# Altium footprint library MGMEZZ04_Loopback.PcbLib: 50 footprints (part 2 of 4)
Each footprint in its own frame and in the unit in brackets; x right, y up, seen from the top. Pads: shape width x height; smd on the part's side, far side on the other; paste and mask are expansions set on the pad; w line width, h text height; cw(c..) or ccw(c..) is an arc to the next point about the centre after c.
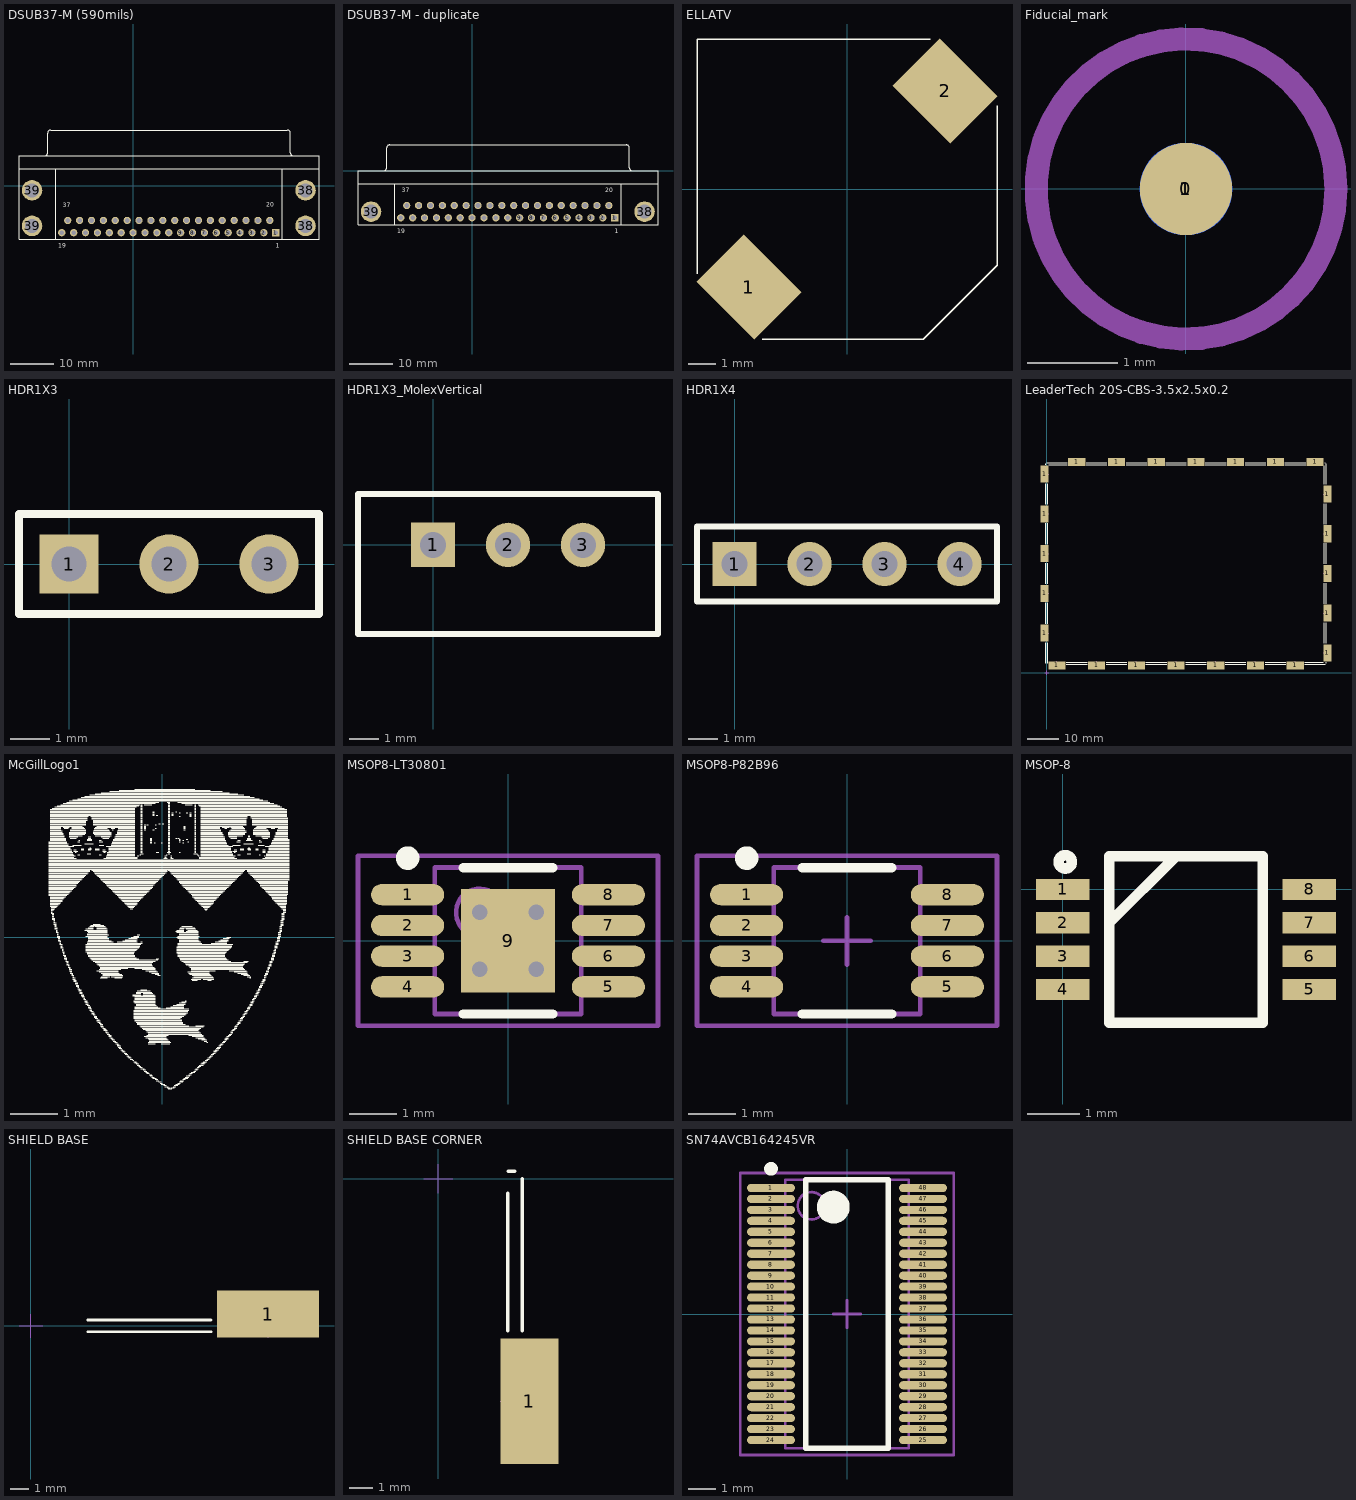
[diagram p1: the footprints below, top view; thin cyan lines are the x and y axes]

## DSUB37-M (590mils) [mm] "DSUB 37Pin Male - 590mils from board edge to first pin"
height 12.55
pads (41):
  rect 1.69x1.69 hole 1.09: 1(33.112,-10.92)
  round 1.69 hole 1.09: 2(30.352,-10.92) 3(27.592,-10.92) 4(24.832,-10.92) 5(22.072,-10.92) 6(19.312,-10.92) 7(16.552,-10.92) 8(13.792,-10.92) 9(11.032,-10.92) 10(8.272,-10.92) 11(5.512,-10.92) 12(2.752,-10.92) 13(-0.008,-10.92) 14(-2.768,-10.92) 15(-5.528,-10.92) 16(-8.288,-10.92) 17(-11.048,-10.92) 18(-13.808,-10.92) 19(-16.568,-10.92) 20(31.733,-8.08) 21(28.973,-8.08) 22(26.213,-8.08) 23(23.453,-8.08) 24(20.693,-8.08) 25(17.933,-8.08) 26(15.173,-8.08) 27(12.413,-8.08) 28(9.653,-8.08) 29(6.893,-8.08) 30(4.133,-8.08) 31(1.373,-8.08) 32(-1.387,-8.08) 33(-4.147,-8.08) 34(-6.907,-8.08) 35(-9.667,-8.08) 36(-12.427,-8.08) 37(-15.187,-8.08)
  round 4.76 hole 3.26: 38(40.024,-9.348) 38(40.024,-1.095) 39(-23.476,-9.348) 39(-23.476,-1.095)
Top Overlay:
  lines w0.2: -26.496,3.909 -17.946,3.909 ; -20.541,6.914 ccw(c-20.541,7.609) -19.846,7.609 -19.846,12.209 ; -19.841,12.214 cw(c-19.146,12.214) -19.146,12.909 35.802,12.909 cw(c35.802,12.214) 36.497,12.214 ; -17.946,-12.5 -17.946,3.909 ; 34.602,3.909 34.602,-12.5 ; 36.502,12.209 36.502,7.609 ccw(c37.197,7.609) 37.197,6.914 ; 43.152,3.909 -17.946,3.909 ; 43.152,6.9 43.152,-12.5 34.602,-12.5 ; 43.152,6.909 -26.496,6.909 -26.496,-12.5 34.602,-12.5
  text "37" at -16.31,-4.975 h1.02
  text "1" at 33.132,-14.475 h1.02
  text "19" at -17.399,-14.478 h1.02
  text "20" at 30.861,-4.953 h1.02
3D body: height 12.55, standoff -3.17, extent -26.337,-12.393 42.98,12.6

## DSUB37-M - duplicate [mm] "DSUB 37Pin Male"
height 12.55
pads (41):
  rect 1.69x1.69 hole 1.09: 1(33.112,-10.92) 1(33.112,-10.92)
  round 1.69 hole 1.09: 2(30.352,-10.92) 3(27.592,-10.92) 4(24.832,-10.92) 5(22.072,-10.92) 6(19.312,-10.92) 7(16.552,-10.92) 8(13.792,-10.92) 9(11.032,-10.92) 10(8.272,-10.92) 11(5.512,-10.92) 12(2.752,-10.92) 13(-0.008,-10.92) 14(-2.768,-10.92) 15(-5.528,-10.92) 16(-8.288,-10.92) 17(-11.048,-10.92) 18(-13.808,-10.92) 19(-16.568,-10.92) 20(31.733,-8.08) 20(31.733,-8.08) 21(28.973,-8.08) 22(26.213,-8.08) 23(23.453,-8.08) 24(20.693,-8.08) 25(17.933,-8.08) 26(15.173,-8.08) 27(12.413,-8.08) 28(9.653,-8.08) 29(6.893,-8.08) 30(4.133,-8.08) 31(1.373,-8.08) 32(-1.387,-8.08) 33(-4.147,-8.08) 34(-6.907,-8.08) 35(-9.667,-8.08) 36(-12.427,-8.08) 37(-15.187,-8.08)
  round 4.76 hole 3.26: 38(40.024,-9.5) 39(-23.476,-9.5)
Top Overlay:
  lines w0.2: -26.496,-3 -17.946,-3 ; -20.541,0.005 ccw(c-20.541,0.7) -19.846,0.7 -19.846,5.3 ; -19.841,5.305 cw(c-19.146,5.305) -19.146,6 35.802,6 cw(c35.802,5.305) 36.497,5.305 ; -17.946,-12.5 -17.946,-3 ; 34.602,-3 34.602,-12.5 ; 36.502,5.3 36.502,0.7 ccw(c37.197,0.7) 37.197,0.005 ; 43.152,-3 -17.946,-3 ; 34.602,-12.5 43.152,-12.5 43.152,0 -26.496,0 -26.496,-12.5 34.602,-12.5
  text "20" at 30.861,-4.953 h1.02
  text "19" at -17.399,-14.478 h1.02
  text "1" at 33.132,-14.475 h1.02
  text "37" at -16.31,-4.975 h1.02

## ELLATV [mm] "Inductor"
height 4.2
pads (2):
  rect 2.45x3 smd rot 45: 1(-3.6,-3.6) 2(3.6,3.6)
Top Overlay:
  lines w0.051: -5.5,-3.1 -5.5,5.5 3.05,5.5 ; -3.1,-5.5 2.8,-5.5 5.5,-2.8 5.5,3.05

## Fiducial_mark [mil]
pads (2):
  round 40 smd mask+20: 0(0,0)
  round 40 smd far side mask+20: 1(0,0)
Mechanical 2:
  circle w10: c0,0 r65

## HDR1X3 [mm]
pads (3):
  rect 1.5x1.5 hole 0.889: 1(0,0)
  round 1.5 hole 0.889: 2(2.54,0) 3(5.08,0)
Top Overlay:
  lines w0.2: -1.27,-1.27 -1.27,1.27 6.35,1.27 6.35,-1.27 -1.27,-1.27

## HDR1X3_MolexVertical [mm] "WM2889"
pads (3):
  rect 1.5x1.5 hole 0.889: 1(0,0)
  round 1.5 hole 0.889: 2(2.54,0) 3(5.08,0)
Top Overlay:
  lines w0.2: -2.54,-3.023 -2.54,1.727 7.62,1.727 7.62,-3.023 -2.54,-3.023

## HDR1X4 [mm]
pads (4):
  rect 1.5x1.5 hole 0.889: 1(0,0)
  round 1.5 hole 0.889: 2(2.54,0) 3(5.08,0) 4(7.62,0)
Top Overlay:
  lines w0.2: -1.27,-1.27 8.89,-1.27 8.89,1.27 -1.27,1.27 -1.27,-1.27

## LeaderTech 20S-CBS-3.5x2.5x0.2 [mil]
pads (24):
  rect 100x215 smd: 1(-25,500) 1(-25,1000) 1(-25,1500) 1(-25,2000) 1(-25,2500) 1(3537,250) 1(3537,750) 1(3537,1250) 1(3537,1750) 1(3537,2250)
  rect 215x100 smd: 1(131,94) 1(381,2656) 1(631,94) 1(881,2656) 1(1131,94) 1(1381,2656) 1(1631,94) 1(1881,2656) 1(2131,94) 1(2381,2656) 1(2631,94) 1(2881,2656) 1(3131,94) 1(3381,2656)
Top Overlay:
  lines w6: -12.5,120 -12.5,380 ; -12.5,620 -12.5,880 ; -12.5,1120 -12.5,1380 ; -12.5,1620 -12.5,1880 ; -12.5,2120 -12.5,2380 ; -12.5,2620 -12.5,2631 ; 0,2643.5 260,2643.5 ; 12.5,120 12.5,380 ; 12.5,620 12.5,880 ; 12.5,1120 12.5,1380 ; 12.5,1620 12.5,1880 ; 12.5,2120 12.5,2380 ; 25,2618.5 260,2618.5 ; 251,106.5 511,106.5 ; 251,131.5 511,131.5 ; 501,2618.5 761,2618.5 ; 501,2643.5 761,2643.5 ; 751,106.5 1011,106.5 ; 751,131.5 1011,131.5 ; 1001,2618.5 1261,2618.5 ; 1001,2643.5 1261,2643.5 ; 1251,106.5 1511,106.5 ; 1251,131.5 1511,131.5 ; 1501,2618.5 1761,2618.5 ; 1501,2643.5 1761,2643.5 ; 1751,106.5 2011,106.5 ; 1751,131.5 2011,131.5 ; 2001,2618.5 2261,2618.5 ; 2001,2643.5 2261,2643.5 ; 2251,106.5 2511,106.5 ; 2251,131.5 2511,131.5 ; 2501,2618.5 2761,2618.5 ; 2501,2643.5 2761,2643.5 ; 2751,106.5 3011,106.5 ; 2751,131.5 3011,131.5 ; 3001,2618.5 3261,2618.5 ; 3001,2643.5 3261,2643.5 ; 3252,106.5 3512,106.5 ; 3252,131.5 3487,131.5 ; 3499.5,370 3499.5,630 ; 3499.5,870 3499.5,1130 ; 3499.5,1370 3499.5,1630 ; 3499.5,1870 3499.5,2130 ; 3499.5,2371 3499.5,2606 ; 3501,2643.5 3512,2643.5 ; 3524.5,119 3524.5,130 ; 3524.5,370 3524.5,630 ; 3524.5,870 3524.5,1130 ; 3524.5,1370 3524.5,1630 ; 3524.5,1870 3524.5,2130 ; 3524.5,2371 3524.5,2631
Mechanical 3:
  drawing of 192 lines, arcs and shapes, not listed

## McGillLogo1 [mm] "McGillLogo"
Top Overlay:
  drawing of 1109 lines, arcs and shapes, not listed

## MSOP8-LT30801 [mm] "TSOP, 8-Leads, Body 3.1x3.1mm (max), Pitch 0.65mm, IPC Medium Density"
height 1.1
pads (9):
  oval 1.55x0.45 smd: 1(-2.125,0.975) 2(-2.125,0.325) 3(-2.125,-0.325) 4(-2.125,-0.975) 5(2.125,-0.975) 6(2.125,-0.325) 7(2.125,0.325) 8(2.125,0.975)
  rect 2x2.2 smd: 9(0,0)
via -0.6,0.6 diameter 0.66 hole 0.33
via 0.6,0.6 diameter 0.66 hole 0.33
via -0.6,-0.6 diameter 0.66 hole 0.33
via 0.6,-0.6 diameter 0.66 hole 0.33
Top Overlay:
  circle w0.25: c-2.125,1.75 r0.125
  lines w0.2: -0.95,-1.55 0.95,-1.55 ; -0.95,1.55 0.95,1.55
Mechanical 13:
  circle w0.1: c-0.6,0.6 r0.5
  lines w0.1: -1.55,-1.55 -1.55,1.55 1.55,1.55 1.55,-1.55 -1.55,-1.55
Mechanical 15:
  lines w0.1: -0.5,0 0.5,0 ; 0,-0.5 0,0.5 ; -3.175,-1.8 -3.175,1.8 3.175,1.8 3.175,-1.8 -3.175,-1.8
3D body: height 1.1, standoff 0.15, extent -1.55,-1.55 1.55,1.55

## MSOP8-P82B96 [mm] "TSOP, 8-Leads, Body 3.1x3.1mm (max), Pitch 0.65mm, IPC Medium Density"
height 1.1
pads (8):
  oval 1.55x0.45 smd paste-0.051 mask+0.102: 1(-2.125,0.975) 2(-2.125,0.325) 3(-2.125,-0.325) 4(-2.125,-0.975) 5(2.125,-0.975) 6(2.125,-0.325) 7(2.125,0.325) 8(2.125,0.975)
Top Overlay:
  circle w0.25: c-2.125,1.75 r0.125
  lines w0.2: -0.95,-1.55 0.95,-1.55 ; -0.95,1.55 0.95,1.55
Mechanical 13:
  lines w0.1: -1.55,-1.55 -1.55,1.55 1.55,1.55 1.55,-1.55 -1.55,-1.55
Mechanical 15:
  lines w0.1: -0.5,0 0.5,0 ; 0,-0.5 0,0.5 ; -3.175,-1.8 -3.175,1.8 3.175,1.8 3.175,-1.8 -3.175,-1.8
3D body: height 1.1, standoff 0.15, extent -1.55,-1.55 1.55,1.55

## MSOP-8 [mil]
pads (8):
  rect 40x16 smd: 1(0,0) 2(0,-25) 3(0,-50) 4(0,-75) 5(185,-75) 6(185,-50) 7(185,-25) 8(185,0)
Top Overlay:
  circle w7.87: c1.89,20.67 r5
  lines w7.87: 35,-25 85,25 ; 35,-100 35,25 150,25 150,-100 35,-100

## PCBComponent_1 [mm]

## SHIELD BASE [mil]
pads (1):
  rect 215x100 smd: 1(500,25)
Top Overlay:
  lines w6: 120,-12.5 380,-12.5 ; 120,12.5 380,12.5
Mechanical 3:
  lines w2: -25,0 0,0 ; 0,-25 0,0 ; 0,25 0,0 ; 25,0 0,0 ; 475,0 500,0 ; 500,-25 500,0 ; 500,25 500,0 ; 525,0 500,0
3D body: height 39.37, standoff 0, extent 120,-5 395,5
3D body: height 39.37, standoff 0, extent 395,-20 605,70

## SHIELD BASE CORNER [mil]
pads (1):
  rect 100x215 smd: 1(156,-381)
Top Overlay:
  lines w6: 118.5,-260 118.5,-25 ; 120,12.5 131,12.5 ; 143.5,-260 143.5,0
Mechanical 3:
  lines w2: -25,0 0,0 ; 0,-25 0,0 ; 0,25 0,0 ; 25,0 0,0 ; 106,-381 131,-381 ; 131,-406 131,-381 ; 131,-356 131,-381 ; 156,-381 131,-381
3D body: height 39.37, standoff 0, extent 125,-275 135,0
3D body: height 39.37, standoff 0, extent 110,-485 205,-275

## SN74AVCB164245VR [mm] "TSSOP, 48-Leads, Body 9.8x4.5mm (max), Pitch 0.40mm, IPC Medium Density"
height 1.2
pads (48):
  oval 1.75x0.3 smd: 1(-2.775,4.6) 2(-2.775,4.2) 3(-2.775,3.8) 4(-2.775,3.4) 5(-2.775,3) 6(-2.775,2.6) 7(-2.775,2.2) 8(-2.775,1.8) 9(-2.775,1.4) 10(-2.775,1) 11(-2.775,0.6) 12(-2.775,0.2) 13(-2.775,-0.2) 14(-2.775,-0.6) 15(-2.775,-1) 16(-2.775,-1.4) 17(-2.775,-1.8) 18(-2.775,-2.2) 19(-2.775,-2.6) 20(-2.775,-3) 21(-2.775,-3.4) 22(-2.775,-3.8) 23(-2.775,-4.2) 24(-2.775,-4.6) 25(2.775,-4.6) 26(2.775,-4.2) 27(2.775,-3.8) 28(2.775,-3.4) 29(2.775,-3) 30(2.775,-2.6) 31(2.775,-2.2) 32(2.775,-1.8) 33(2.775,-1.4) 34(2.775,-1) 35(2.775,-0.6) 36(2.775,-0.2) 37(2.775,0.2) 38(2.775,0.6) 39(2.775,1) 40(2.775,1.4) 41(2.775,1.8) 42(2.775,2.2) 43(2.775,2.6) 44(2.775,3) 45(2.775,3.4) 46(2.775,3.8) 47(2.775,4.2) 48(2.775,4.6)
Top Overlay:
  circle w0.25: c-2.775,5.3 r0.125
  circle w0.6: c-0.5,3.9 r0.3
  lines w0.2: -1.5,-4.9 -1.5,4.9 1.5,4.9 1.5,-4.9 -1.5,-4.9
Mechanical 13:
  circle w0.1: c-1.3,3.95 r0.5
  lines w0.1: -2.25,-4.9 -2.25,4.9 2.25,4.9 2.25,-4.9 -2.25,-4.9
Mechanical 15:
  lines w0.1: -0.5,0 0.5,0 ; 0,-0.5 0,0.5 ; -3.9,-5.15 -3.9,5.15 3.9,5.15 3.9,-5.15 -3.9,-5.15
3D body: height 1.2, standoff 0.15, extent -2.25,-4.9 2.25,4.9